# EAGLE library part RESISTOR_NET_4 (library pimoroni-passives)
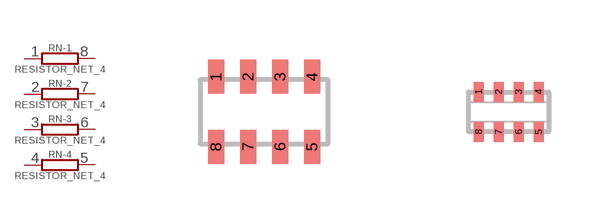
[diagram p1: symbol with the pads of TC164-JR-07XXXL; footprints TC164-JR-07XXXL, 0804_RESISTOR_NET]

Designator prefix RN; gates -1=RESISTOR -2=RESISTOR -3=RESISTOR -4=RESISTOR

## RESISTOR_NET_4  [TC164-JR-07XXXL]
1  -1:P$1
2  -2:P$1
3  -3:P$1
4  -4:P$1
5  -4:P$2
6  -3:P$2
7  -2:P$2
8  -1:P$2

## RESISTOR_NET_40804  [0804_RESISTOR_NET]
Pads as for TC164-JR-07XXXL

## Footprint TC164-JR-07XXXL (pad centres in mm)
smd 0.4 x 0.85: 1 -1.2,0.875; 2 -0.4,0.875; 3 0.4,0.875; 4 1.2,0.875; 5 1.2,-0.875; 6 0.4,-0.875; 7 -0.4,-0.875; 8 -1.2,-0.875

## Footprint 0804_RESISTOR_NET (pad centres in mm)
smd 0.25 x 0.5: 1 -0.75,0.5; 2 -0.25,0.5; 3 0.25,0.5; 4 0.75,0.5; 5 0.75,-0.5; 6 0.25,-0.5; 7 -0.25,-0.5; 8 -0.75,-0.5